# Altium footprint library Connector.PcbLib: 28 footprints (part 2 of 2)
Each footprint in its own frame and in the unit in brackets; x right, y up, seen from the top. Pads: shape width x height; smd on the part's side, far side on the other; paste and mask are expansions set on the pad; w line width, h text height; cw(c..) or ccw(c..) is an arc to the next point about the centre after c.
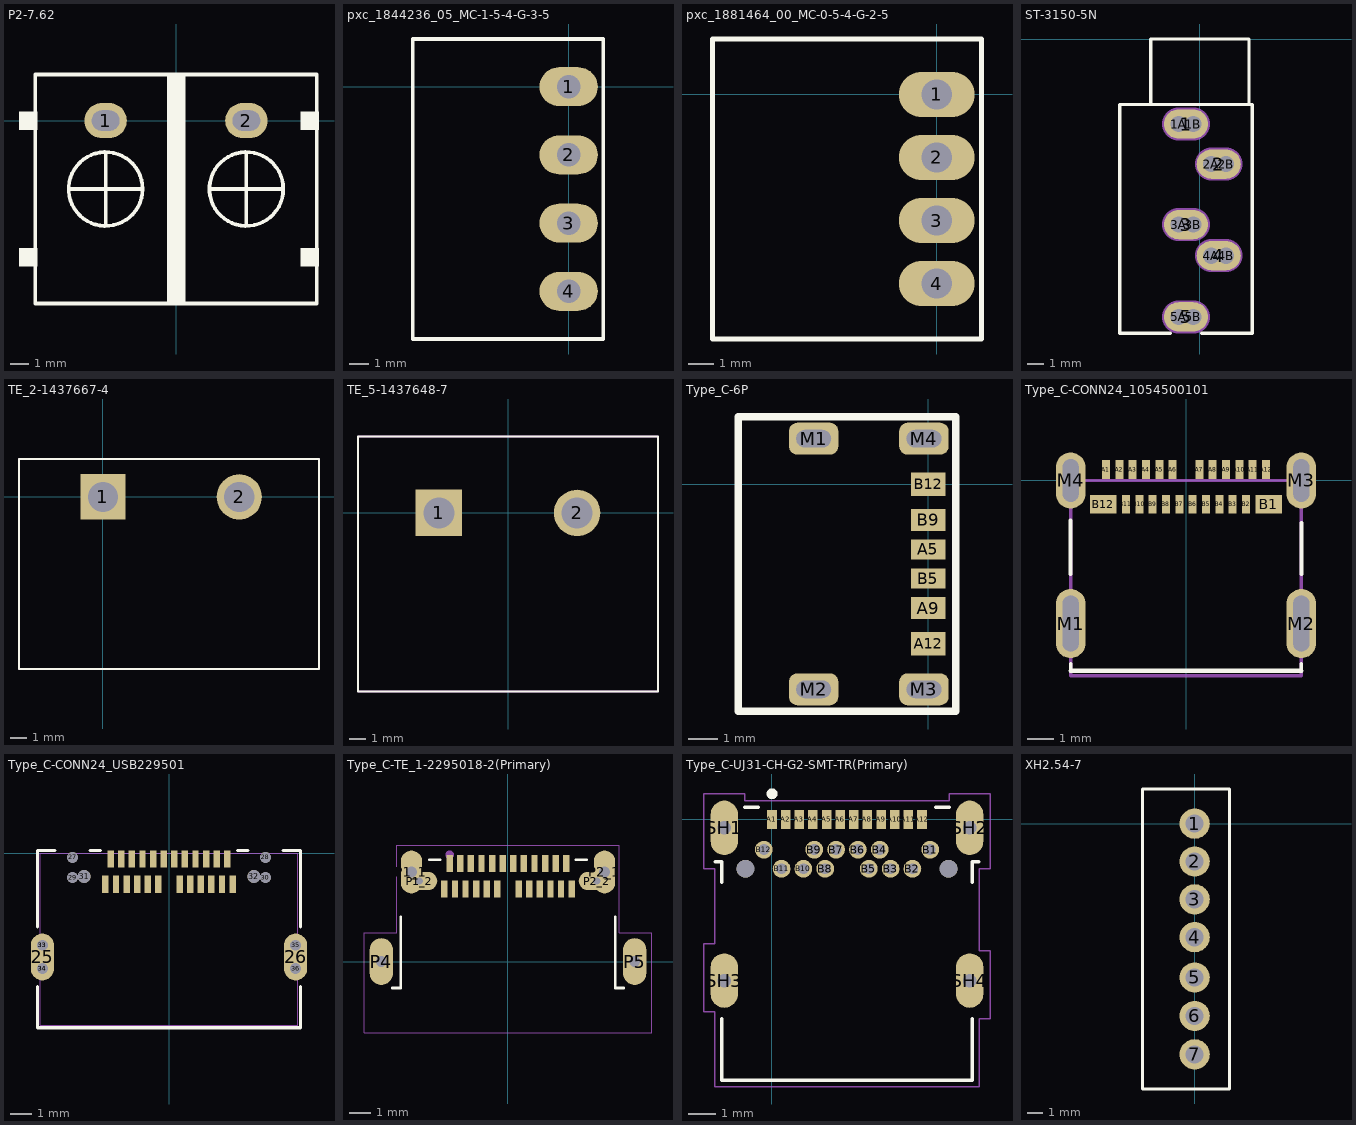
[diagram p1: the footprints below, top view; thin cyan lines are the x and y axes]

## P2-7.62 [mm]
pads (2):
  oval 2.3x1.9 hole 1.5 slot 1.1 at 90 deg: 1(-3.81,0) 2(3.81,0)
Top Overlay:
  circle w0.2: c3.81,-3.7 r2
  circle w0.2: c-3.81,-3.7 r2
  rectangle: -0.5,-9.9 0.5,2.5
  rectangle: 6.74,-0.5 7.74,0.5
  region: 7.74,-6.9 6.74,-6.9 6.74,-7.9 7.74,-7.9
  region: -7.5,-6.9 -8.5,-6.9 -8.5,-7.9 -7.5,-7.9
  rectangle: -8.5,-0.5 -7.5,0.5
  lines w0.2: -5.715,-3.7 -1.92,-3.7 ; -3.81,-5.581 -3.81,-3.7 -3.81,-1.778 ; 1.905,-3.7 5.7,-3.7 ; 3.81,-5.581 3.81,-3.7 3.81,-1.778 ; -7.62,-9.9 7.62,-9.9 7.62,2.5 -7.62,2.5 -7.62,-9.9

## pxc_1844236_05_MC-1-5-4-G-3-5 [mm]
pads (4):
  oval 3x2 hole 1.2: 1(0,0) 2(0,-3.5) 3(0,-7) 4(0,-10.5)
Top Overlay:
  lines w0.2: -8.001,-12.95 -8,2.45 1.778,2.45 1.778,-12.95 -8,-12.95
3D body "pxc_1844236_05_MC-1-5-4-G-3-5_3D.stp": height 7.25, standoff -3.4, extent -7.902,-12.86 1.298,2.54
3D body "pxc_1840382_05_MC-1-5-4-ST-3-5_3D.stp": height 7.6, standoff -3.5, extent -17.6,-12.688 -1.5,1.512

## pxc_1881464_00_MC-0-5-4-G-2-5 [mm]
pads (4):
  oval 3x1.8 hole 1.2: 1(0,0) 2(0,-2.5) 3(0,-5) 4(0,-7.5)
Top Overlay:
  lines w0.2: -8.9,-9.7 -8.9,2.2 1.778,2.2 1.778,-9.7 -8.9,-9.7
3D body "pxc_1881464_00_MC-0-5-4-G-2-5_3D.stp": height 8.1, standoff -3.5, extent -8.9,-9.7 1.2,2.2
3D body "pxc_1881341_06_FK-MC-0-5-4-ST-2-5_3D.stp": height 11.75, standoff 0, extent -22.7,-9.584 -3.5,1.016

## ST-3150-5N [mm] "Connector; Stereo Jack, 3.5mm, 5 Position"
pads (15):
  oval 2.7x1.8 all layers, no hole: 1(-0.85,-5.2) 2(1.15,-7.65) 3(-0.85,-11.35) 4(1.15,-13.25) 5(-0.85,-17)
  round 1.2 hole 1: 1A(-1.3,-5.2) 1B(-0.4,-5.2) 2A(0.7,-7.65) 2B(1.6,-7.65) 3A(-1.3,-11.35) 3B(-0.4,-11.35) 4A(0.7,-13.25) 4B(1.6,-13.25) 5A(-1.3,-17) 5B(-0.4,-17)
Top Overlay:
  lines w0.2: -3,-4 -3,0 3,0 3,-4 ; -1.8,-18 -4.9,-18 -4.9,-4 3.2,-4 3.2,-18 0.1,-18
Mechanical 1:
  lines w1: -1.3,-17 -0.4,-17 ; -1.3,-11.35 -0.4,-11.35 ; -1.3,-5.2 -0.4,-5.2 ; 0.7,-13.25 1.6,-13.25 ; 0.7,-7.65 1.6,-7.65
  text "Mech 2 - Clearance, move to internal plane if present" at -7.226,0.374 h0.3
  text "Mech 1 - Slot cut-out" at -7.226,0.874 h0.3
  text "Assign keep-out area to slot" at -7.226,2.374 h0.3
  text "Slot 1x1.9mm, PTH" at -7.226,1.374 h0.3
  text "Alert PCB fab to slot details" at -7.226,1.874 h0.3
Mechanical 2:
  lines w2.016: -1.3,-17 -0.4,-17 ; -1.3,-11.35 -0.4,-11.35 ; -1.3,-5.2 -0.4,-5.2 ; 0.7,-13.25 1.6,-13.25 ; 0.7,-7.65 1.6,-7.65

## TE_2-1437667-4 [mil]
pads (2):
  rect 108x108 hole 72: 1(0,0)
  round 108 hole 72: 2(325,0)
Top Overlay:
  lines w5: -200,-410 515,-410 515,90 -200,90 -200,-410
Top 3D Body:
  lines w5: -200,-410 515,-410 515,90 -200,90 -200,-410

## TE_5-1437648-7 [mm]
pads (2):
  rect 2.775x2.775 hole 1.85: 1(-4.13,0)
  round 2.775 hole 1.85: 2(4.13,0)
Top Overlay:
  lines w0.127: -8.96,-10.67 -8.96,4.57 8.96,4.57 8.96,-10.67 -8.96,-10.67
Top 3D Body:
  lines w0.127: -8.96,-10.67 -8.96,4.57 8.96,4.57 8.96,-10.67 -8.96,-10.67
3D body "c-5-1437648-7-t-3d.stp": height 13.35, standoff -4.05, extent -9.144,-10.668 9.115,4.572

## Type_C-6P [mm]
pads (10):
  rect 1.2x0.7 smd: A5(0,-2.25) B5(0,-3.25)
  rect 1.2x0.76 smd: A9(0,-4.27) B9(0,-1.23)
  rect 1.2x0.8 smd: A12(0,-5.5) B12(0,0)
  rrect50% 1.7x1.1 hole 0.6 slot 1.2 at 0 deg: M1(-3.95,1.57) M2(-3.95,-7.07) M3(-0.15,-7.07) M4(-0.15,1.57)
Top Overlay:
  lines w0.254: -6.547,-7.83 -6.547,2.33 0.946,2.33 0.946,-7.83 -6.547,-7.83
3D body "USB TYPE-C 3.1smple.STEP": height 3.18, standoff -0.9, extent -6.589,-7.22 0.311,1.72

## Type_C-CONN24_1054500101 [mm]
pads (28):
  rect 0.3x0.7 smd mask+0.05: A1(-3,0.41) A2(-2.5,0.41) A3(-2,0.41) A4(-1.5,0.41) A5(-1,0.41) A6(-0.5,0.41) A7(0.5,0.41) A8(1,0.41) A9(1.5,0.41) A10(2,0.41) A11(2.5,0.41) A12(3,0.41) B2(2.25,-0.89) B3(1.75,-0.89) B4(1.25,-0.89) B5(0.75,-0.89) B6(0.25,-0.89) B7(-0.25,-0.89) B8(-0.75,-0.89) B9(-1.25,-0.89) B10(-1.75,-0.89) B11(-2.25,-0.89)
  rect 1x0.7 smd paste+0 mask+0.05: B1(3.1,-0.89) B12(-3.1,-0.89)
  oval 1.1x2.6 hole 0.6 slot 2.1 at 90 deg unplated mask+0.05: M1(-4.32,-5.36) M2(4.32,-5.36)
  oval 1.1x2.1 hole 0.6 slot 1.6 at 90 deg unplated mask+0.05: M3(4.32,0) M4(-4.32,0)
Top Overlay:
  lines w0.127: -4.32,-7.13 -4.32,-6.86 ; 4.32,-7.13 4.32,-6.86
  lines w0.152: -4.32,-7.13 4.32,-7.13 ; -4.32,-3.5 -4.32,-1.5 ; 4.32,-3.5 4.32,-1.6
Top Component Outline (Mech100):
  lines w0.127: -4.32,-7.31 -4.32,0 4.32,0 4.32,-7.31 -4.32,-7.31
3D body "1054500101.stp": height 3.18, standoff -0.78, extent -4.47,-7.31 4.47,0.59

## Type_C-CONN24_USB229501 [mil]
pads (38):
  oval 43x87 smd: 25(-235.04,-192.52) 26(235.04,-192.52)
  round 20 hole 20: 27(-179.13,-7.68) 28(179.13,-7.68) 29(-179.13,-45.12) 30(179.13,-45.12) 33(-235.04,-171.02) 33(-235.04,-171.02) 34(-235.04,-214.02) 34(-235.04,-214.02) 35(235.04,-171.02) 36(235.04,-214.02)
  round 24 hole 24: 31(-157.48,-43.11) 32(157.48,-43.11)
  rect 12x32 smd paste+0 mask+0: A1(-108.27,-10.47) A2(-88.58,-10.47) A3(-68.9,-10.47) A4(-49.21,-10.47) A5(-29.53,-10.47) A6(-9.84,-10.47) A7(9.84,-10.47) A8(29.53,-10.47) A9(49.21,-10.47) A10(68.9,-10.47) A11(88.58,-10.47) A12(108.27,-10.47) B1(118.11,-57.72) B2(98.43,-57.72) B3(78.74,-57.72) B4(59.06,-57.72) B5(39.37,-57.72) B6(19.68,-57.72) B7(-19.68,-57.72) B8(-39.37,-57.72) B9(-59.06,-57.72) B10(-78.74,-57.72) B11(-98.43,-57.72) B12(-118.11,-57.72)
Top Overlay:
  lines w6: -244,-247.94 -244,-324 244,-324 244,-247.94 ; -244,-137.1 -244,5 -212.23,5 ; -146.03,5 -127.1,5 ; 127.1,5 146.03,5 ; 212.23,5 244,5 244,-137.1
Top 3D Body:
  lines w1: -239,-319 -239,0 239,0 239,-319 -239,-319
Multi-Layer:
  lines w1: -189.13,-45.12 -189.13,-7.68 ; -179.13,-55.12 -157.48,-55.11 ; -169.13,-7.68 -169.13,-31.11 -157.48,-31.11 ; 157.48,-55.11 179.13,-55.12 ; 157.48,-31.11 169.13,-31.11 169.13,-7.68 ; 189.13,-45.12 189.13,-7.68 ; -245.04,-214.02 -245.04,-171.02 -245.04,-214.02 ; -225.04,-214.02 -225.04,-171.02 -225.04,-214.02 ; -194,-319 194,-319 194,-91 -194,-91 -194,-319 ; 225.04,-214.02 225.04,-171.02 225.04,-214.02 ; 245.04,-214.02 245.04,-171.02 245.04,-214.02
3D body "c-2295018-2-a-3d.stp": height 96.06, standoff -45.67, extent -238.97,-315.86 238.99,2.84

## Type_C-TE_1-2295018-2(Primary) [mm]
pads (30):
  rect 0.3x0.8 smd: A1(-2.75,4.63) A2(-2.25,4.63) A3(-1.75,4.63) A4(-1.25,4.63) A5(-0.75,4.63) A6(-0.25,4.63) A7(0.25,4.63) A8(0.75,4.63) A9(1.25,4.63) A10(1.75,4.63) A11(2.25,4.63) A12(2.75,4.63) B1(3,3.43) B2(2.5,3.43) B3(2,3.43) B4(1.5,3.43) B5(1,3.43) B6(0.5,3.43) B7(-0.5,3.43) B8(-1,3.43) B9(-1.5,3.43) B10(-2,3.43) B11(-2.5,3.43) B12(-3,3.43)
  oval 1.008x2.016 hole 0.5: P1_1(-4.55,4.22) P2_1(4.55,4.22)
  oval 1.716x0.858 hole 0.35: P1_2(-4.191,3.795) P2_2(4.191,3.795)
  oval 1.1x2.2 hole 0.5: P4(-5.97,0) P5(5.97,0)
Top Overlay:
  lines w0.127: -5.45,-1.25 -5.05,-1.25 -5.05,2.1 ; -3.7,4.795 -3.2,4.795 ; 3.2,4.795 3.7,4.795 ; 5.05,2.1 5.05,-1.25 5.45,-1.25
Bottom Component Outline:
  circle w0.2: c-2.75,5.035 r0.1
  circle w0.2: c-2.75,5.035 r0.1
Top Component Outline (Mech100):
  lines w0.05: -6.77,-3.355 -6.77,1.35 -5.25,1.35 -5.25,5.48 5.25,5.48 5.25,1.35 6.77,1.35 6.77,-3.355 -6.77,-3.355
3D body "c-1-2295018-2-a-3d.stp": height 2.5, standoff -1.1, extent -6.07,-3.142 6.07,4.953

## Type_C-UJ31-CH-G2-SMT-TR(Primary) [mm]
pads (30):
  rect 0.35x0.7 smd: A1(0,0) A2(0.5,0) A3(1,0) A4(1.5,0) A5(2,0) A6(2.5,0) A7(3,0) A8(3.5,0) A9(4,0) A10(4.5,0) A11(5,0) A12(5.5,0)
  round 0.65 hole 0.4: B1(5.8,-1.11) B2(5.15,-1.81) B3(4.35,-1.81) B4(3.95,-1.11) B5(3.55,-1.81) B6(3.15,-1.11) B7(2.35,-1.11) B8(1.95,-1.81) B9(1.55,-1.11) B10(1.15,-1.81) B11(0.35,-1.81) B12(-0.3,-1.11)
  round 0.65 hole 0.65 unplated: None(-0.975,-1.81) None(6.475,-1.81)
  oval 1x2 hole 0.5: SH1(-1.75,-0.31) SH2(7.25,-0.31) SH3(-1.75,-5.91) SH4(7.25,-5.91)
Top Overlay:
  circle w0.2: c0,0.94 r0.1
  lines w0.127: -2.075,-1.56 -1.85,-1.56 -1.85,-2.31 ; -1.85,-7.31 -1.85,-9.56 7.35,-9.56 7.35,-7.31 ; -1,0.44 -0.5,0.44 ; 6,0.44 6.5,0.44 ; 7.35,-2.31 7.35,-1.56 7.575,-1.56
Top Component Outline (Mech100):
  lines w0.05: -2.5,-7.06 -2.5,-4.56 -2.1,-4.56 -2.1,-1.81 -2.5,-1.81 -2.5,0.94 -1,0.94 -1,0.69 6.5,0.69 6.5,0.94 8,0.94 8,-1.81 7.6,-1.81 7.6,-4.81 8,-4.81 8,-7.31 7.6,-7.31 7.6,-9.81 -2.1,-9.81 -2.1,-7.06 -2.5,-7.06
3D body "CUI_UJ31-CH-G2-SMT-TR.step": height 4.5, standoff -1.16, extent -2.062,-9.612 7.65,0.388

## XH2.54-7 [mm]
pads (7):
  round 2 hole 1.2: 1(0,0) 2(0,-2.5) 3(0,-5) 4(0,-7.5) 5(0,-10.16) 6(0,-12.7) 7(0,-15.24)
Top Overlay:
  lines w0.2: -3.429,-17.526 -3.429,2.286 2.286,2.286 2.286,-17.526 -3.429,-17.526
3D body: height 3.37, standoff -3.37, extent -9.398,-5.207 -9.398,-5.207
3D body "B7B-XH-A.STEP": height 7, standoff -3.4, extent -3.383,-17.57 2.367,2.33